# Altium footprint library QFN65P500X500X100-16+T270X270.PcbLib: 1 footprints
Each footprint in its own frame and in the unit in brackets; x right, y up, seen from the top. Pads: shape width x height; smd on the part's side, far side on the other; paste and mask are expansions set on the pad; w line width, h text height; cw(c..) or ccw(c..) is an arc to the next point about the centre after c.
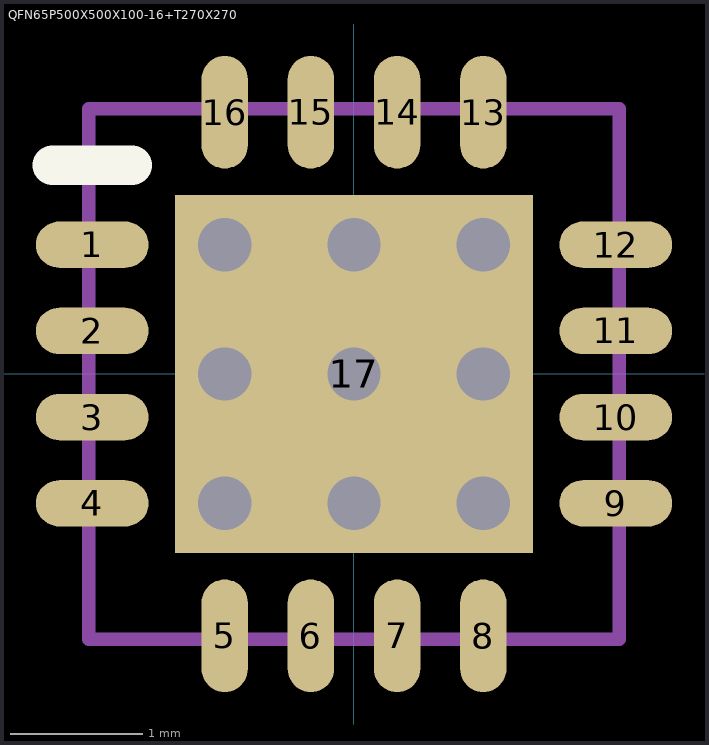
[diagram p0: the footprint, top view; thin cyan lines are the x and y axes]

## QFN65P500X500X100-16+T270X270 [mm] "Footprint for TPS54494RSAR Dual Channel Synchronous Step-Down Switcher with Integrated FET"
pads (17):
  rrect100% 0.85x0.35 smd mask+0: 1(-1.975,0.975) 2(-1.975,0.325) 3(-1.975,-0.325) 4(-1.975,-0.975) 9(1.975,-0.975) 10(1.975,-0.325) 11(1.975,0.325) 12(1.975,0.975)
  rrect100% 0.35x0.85 smd mask+0: 5(-0.975,-1.975) 6(-0.325,-1.975) 7(0.325,-1.975) 8(0.975,-1.975) 13(0.975,1.975) 14(0.325,1.975) 15(-0.325,1.975) 16(-0.975,1.975)
  rect 2.7x2.7 smd mask+0: 17(0,0)
via 0.975,-0.975 diameter 0.7 hole 0.4
via -0.975,0.975 diameter 0.7 hole 0.4
via 0.975,0.975 diameter 0.7 hole 0.4
via -0.975,-0.975 diameter 0.7 hole 0.4
via -0.975,0 diameter 0.7 hole 0.4
via 0,0.975 diameter 0.7 hole 0.4
via 0,0 diameter 0.7 hole 0.4
via 0.975,0 diameter 0.7 hole 0.4
via 0,-0.975 diameter 0.7 hole 0.4
Top Overlay:
  lines w0.3: -2.275,1.575 -1.675,1.575
Mechanical 13 (Mech13):
  lines w0.1: -2,-2 -2,2 2,2 2,-2 -2,-2
Mechanical 15 (Mech15):
  lines w0.3: -0.975,0 0,0 ; 0,-0.975 0,0 ; 0,0.975 0,0 ; 0.975,0 0,0
3D body "TPS54494RSAR.STEP": height 1, standoff 0, extent -2,-2 2,2